# EAGLE library part PWM_EXTENDER (library BlueShift)
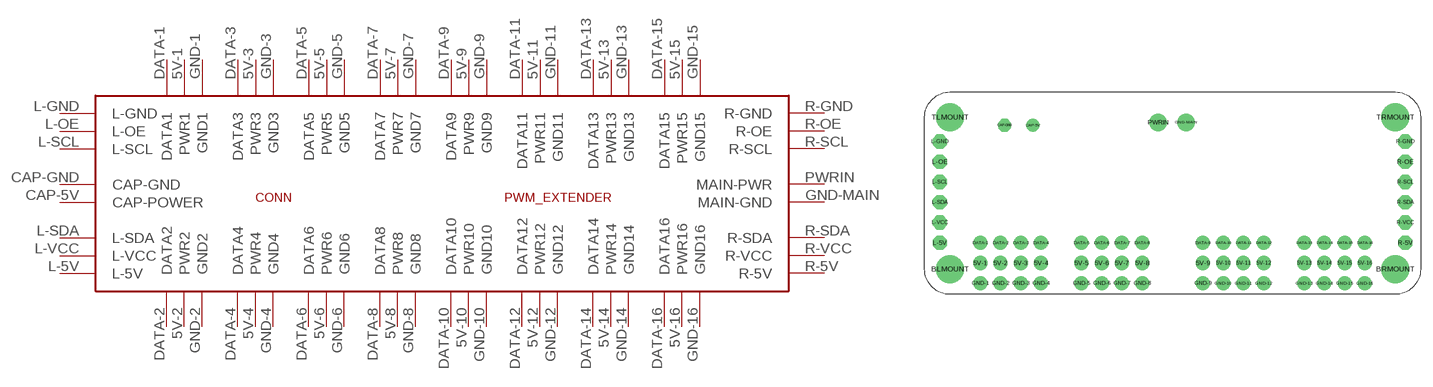
[diagram p1: symbol with the pads of PWM_EXTENDER; footprint PWM_EXTENDER]

Designator prefix CONN

## PWM_EXTENDER  [PWM_EXTENDER]
5V-1  PWR1
5V-2  PWR2
5V-3  PWR3
5V-4  PWR4
5V-5  PWR5
5V-6  PWR6
5V-7  PWR7
5V-8  PWR8
5V-9  PWR9
5V-10  PWR10
5V-11  PWR11
5V-12  PWR12
5V-13  PWR13
5V-14  PWR14
5V-15  PWR15
5V-16  PWR16
CAP-5V  CAP-POWER
CAP-GND  CAP-GND
DATA-1  DATA1
DATA-2  DATA2
DATA-3  DATA3
DATA-4  DATA4
DATA-5  DATA5
DATA-6  DATA6
DATA-7  DATA7
DATA-8  DATA8
DATA-9  DATA9
DATA-10  DATA10
DATA-11  DATA11
DATA-12  DATA12
DATA-13  DATA13
DATA-14  DATA14
DATA-15  DATA15
DATA-16  DATA16
GND-1  GND1
GND-2  GND2
GND-3  GND3
GND-4  GND4
GND-5  GND5
GND-6  GND6
GND-7  GND7
GND-8  GND8
GND-9  GND9
GND-10  GND10
GND-11  GND11
GND-12  GND12
GND-13  GND13
GND-14  GND14
GND-15  GND15
GND-16  GND16
GND-MAIN  MAIN-GND
L-5V  L-5V
L-GND  L-GND
L-OE  L-OE
L-SCL  L-SCL
L-SDA  L-SDA
L-VCC  L-VCC
PWRIN  MAIN-PWR
R-5V  R-5V
R-GND  R-GND
R-OE  R-OE
R-SCL  R-SCL
R-SDA  R-SDA
R-VCC  R-VCC

## Footprint PWM_EXTENDER (pad centres in mm)
drill 0.991 pad 1.778: 5V-1 5.08,-2.54; 5V-2 7.62,-2.54; 5V-3 10.16,-2.54; 5V-4 12.7,-2.54; 5V-5 17.78,-2.54; 5V-6 20.32,-2.54; 5V-7 22.86,-2.54; 5V-8 25.4,-2.54; 5V-9 33.02,-2.54; 5V-10 35.56,-2.54; 5V-11 38.1,-2.54; 5V-12 40.64,-2.54; 5V-13 45.72,-2.54; 5V-14 48.26,-2.54; 5V-15 50.8,-2.54; 5V-16 53.34,-2.54; DATA-1 5.08,0; DATA-2 7.62,0; DATA-3 10.16,0; DATA-4 12.7,0; DATA-5 17.78,0; DATA-6 20.32,0; DATA-7 22.86,0; DATA-8 25.4,0; DATA-9 33.02,0; DATA-10 35.56,0; DATA-11 38.1,0; DATA-12 40.64,0; DATA-13 45.72,0; DATA-14 48.26,0; DATA-15 50.8,0; DATA-16 53.34,0; GND-1 5.08,-5.08; GND-2 7.62,-5.08; GND-3 10.16,-5.08; GND-4 12.7,-5.08; GND-5 17.78,-5.08; GND-6 20.32,-5.08; GND-7 22.86,-5.08; GND-8 25.4,-5.08; GND-9 33.02,-5.08; GND-10 35.56,-5.08; GND-11 38.1,-5.08; GND-12 40.64,-5.08; GND-13 45.72,-5.08; GND-14 48.26,-5.08; GND-15 50.8,-5.08; GND-16 53.34,-5.08
drill 2.489 pad 3.2: BLMOUNT 1.27,-3.302; BRMOUNT 57.15,-3.302; TLMOUNT 1.27,15.748; TRMOUNT 57.15,15.748
drill 0.813 pad 1.6: CAP-5V 11.684,14.732
drill 0.813 pad 1.6 octagon: CAP-GND 8.128,14.732
drill 0.991 pad 2.184: GND-MAIN 30.912,15.113; PWRIN 27.407,15.113
drill 1.016 pad 1.778 octagon: L-5V 0,0; L-GND 0,12.7; L-OE 0,10.16; L-SCL 0,7.62; L-SDA 0,5.08; L-VCC 0,2.54; R-5V 58.42,0; R-GND 58.42,12.7; R-OE 58.42,10.16; R-SCL 58.42,7.62; R-SDA 58.42,5.08; R-VCC 58.42,2.54